# Altium schematic symbol library Schlib1.SchLib: 2 symbols
Pins are listed as number, name and electrical type; pins without a type are passive.

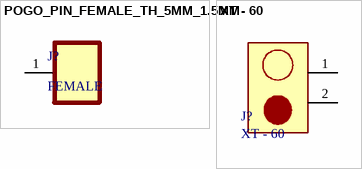
[diagram p0: symbols POGO_PIN_FEMALE_TH_5MM_1.5MM to XT - 60]

## POGO_PIN_FEMALE_TH_5MM_1.5MM
designator J?, comment FEMALE
POGO_PIN_FEMALE_TH_5MM_1.5MM; Manufacurer: RTLECS; Package: Plugin,P=2.54mm
footprint POGO_PIN_FEMALE_TH_5MM_1.5MM
pins: 1

## XT - 60
designator J?
footprint XT-60
pins: 1 +, 2 -